# EAGLE library part 24LC00-I/P (library Microchip_By_element14_Batch_1)
IC, EEPROM, 128BIT, SERIAL, 400KHZ
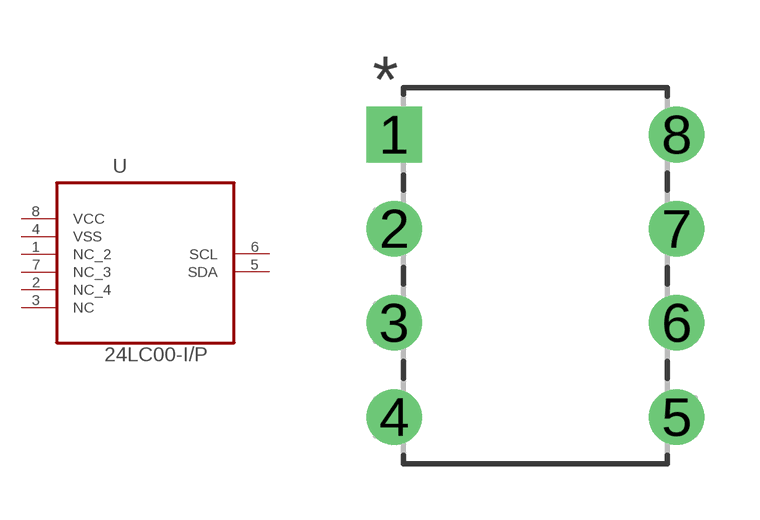
[diagram p32: symbol with the pads of DIP254P762X533-8; footprint DIP254P762X533-8]

Designator prefix U

## 24LC00-I/P (MPN: 24LC00-I/P; OC_FARNELL: 1331308; OC_NEWARK: 12C1983; PACKAGE: DIP-8; SUPPLIER: Microchip)  [DIP254P762X533-8]
1  NC_2  nc
2  NC_4  nc
3  NC  nc
4  VSS  pas
5  SDA  out
6  SCL  out
7  NC_3  nc
8  VCC  pas

## Footprint DIP254P762X533-8 (pad centres in mm)
drill 0.991 square: 1 -7.62,7.62
drill 0.991: 2 -7.62,5.08; 3 -7.62,2.54; 4 -7.62,0; 5 0,0; 6 0,2.54; 7 0,5.08; 8 0,7.62